# Altium schematic symbol library 1-406541-5.SchLib: 1 symbol
Pins are listed as number, name and electrical type; pins without a type are passive.

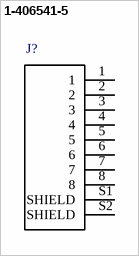
[diagram p0: symbol 1-406541-5]

## 1-406541-5
designator J?  (value not drawn)
/ Conn RJ-45 F 8 POS 2.04mm Solder RA Thru-Hole 8 Terminal 1 Port Tray Cat 5 /; MF: TE Connectivity; TE_purchase_URL: https://www.te.com/usa-en/product-1-406541-5.html?te_bu=Cor&te_type=disp&te_campaign=seda_glo_cor-seda-global-disp-prtnr-fy19-seda-model-bom-cta_sma-317_1&elqCampaignId=32493; MP: 1-406541-5; Availability: Unavailable; Package: None; SnapEDA_Link: https://www.snapeda.com/parts/1-406541-5/TE%20Connectivity%20AMP%20Connectors/view-part/?ref=snap; Price: None; Value: *
footprint TE_1-406541-5_1-406541-5(Primary)
pins: 1, 2, 3, 4, 5, 6, 7, 8, S1 SHIELD, S2 SHIELD